# EAGLE library part FE05-2 (library ATMEL)
FEMALE HEADER
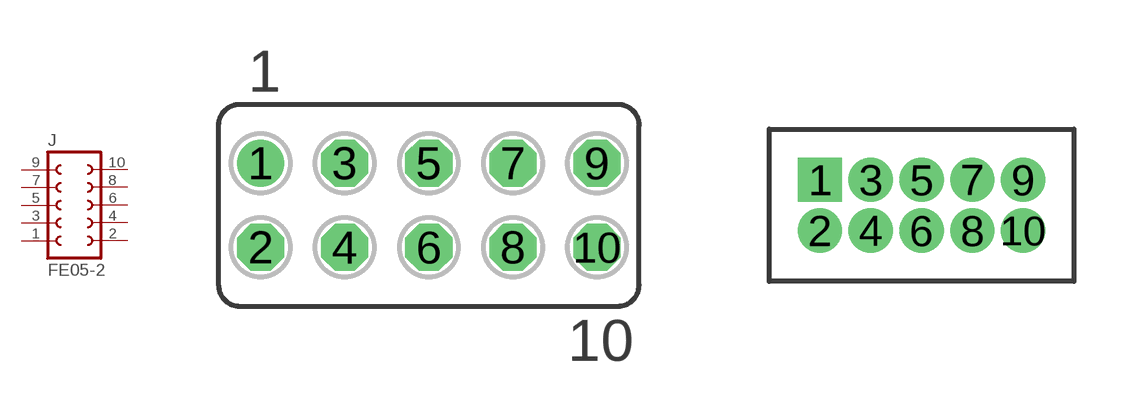
[diagram p9: symbol with the pads of FE05-2; footprints FE05-2, HEADER2X5_50]

Designator prefix J

## FE05-2100_MIL  [FE05-2]
1  1  pas
2  2  pas
3  3  pas
4  4  pas
5  5  pas
6  6  pas
7  7  pas
8  8  pas
9  9  pas
10  10  pas

## FE05-250_MIL  [HEADER2X5_50]
Pads as for FE05-2

## Footprint FE05-2 (pad centres in mm)
FEMALE HEADER
drill 0.914 round: 1 -5.08,1.27
drill 0.914 octagon: 2 -5.08,-1.27; 3 -2.54,1.27; 4 -2.54,-1.27; 5 0,1.27; 6 0,-1.27; 7 2.54,1.27; 8 2.54,-1.27; 9 5.08,1.27; 10 5.08,-1.27

## Footprint HEADER2X5_50 (pad centres in mm)
drill 0.6 pad 1.016 square: 1 0,0
drill 0.6 pad 1.016 round: 2 0,-1.27; 3 1.27,0; 4 1.27,-1.27; 5 2.54,0; 6 2.54,-1.27; 7 3.81,0; 8 3.81,-1.27; 9 5.08,0; 10 5.08,-1.27